# EAGLE library part EXIXE (library clock)
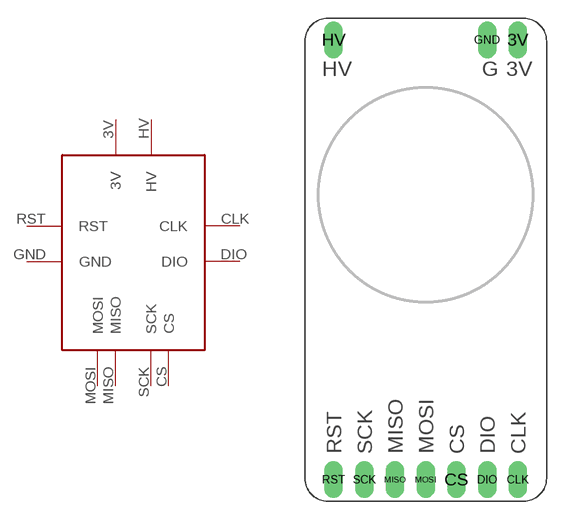
[diagram p1: symbol with the pads of EXIXE_PAC; footprint EXIXE_PAC]

Designator prefix -

## EXIXE  [EXIXE_PAC]
3V  3V
CLK  CLK
CS  CS
DIO  DIO
GND  GND
HV  HV
MISO  MISO
MOSI  MOSI
RST  RST
SCK  SCK

## Footprint EXIXE_PAC (pad centres in mm)
drill 1.016 long: 3V 17.62,38.2; CLK 17.62,1.8; CS 12.54,1.8; DIO 15.08,1.8; GND 15.08,38.2; HV 2.38,38.2; MISO 7.46,1.8; MOSI 10,1.8; RST 2.38,1.8; SCK 4.92,1.8